# EAGLE library part LT8614 (library PP_PowerIC)
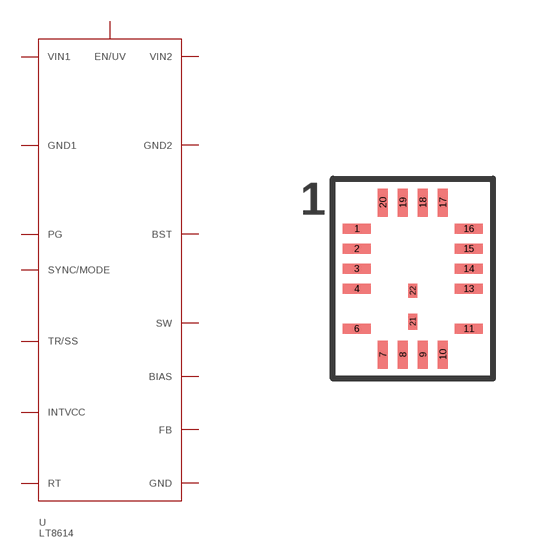
[diagram p17: symbol with the pads of LT8614_QFN-18; footprint LT8614_QFN-18]

Designator prefix U

## LT8614IUDC#PBF  [LT8614_QFN-18]
1  BIAS
2  INTVCC
3  BST
4  VIN1
6  GND1
7  GND1
8  SW
9  SW
10  GND2
11  GND2
13  VIN2
14  EN/UV
15  RT
16  TR/SS
17  SYNC/MODE
18  GND
19  PG
20  FB
21  SW
22  SW

## Footprint LT8614_QFN-18 (pad centres in mm)
smd 0.7 x 0.25: 1 -1.4,1.25; 2 -1.4,0.75; 3 -1.4,0.25; 4 -1.4,-0.25; 6 -1.4,-1.25; 11 1.4,-1.25; 13 1.4,-0.25; 14 1.4,0.25; 15 1.4,0.75; 16 1.4,1.25
smd 0.25 x 0.7: 7 -0.75,-1.9; 8 -0.25,-1.9; 9 0.25,-1.9; 10 0.75,-1.9; 17 0.75,1.9; 18 0.25,1.9; 19 -0.25,1.9; 20 -0.75,1.9
smd 0.22 x 0.4: 21 0,-1.075
smd 0.22 x 0.356: 22 0,-0.305